# Altium footprint library WREL_AD10_Ben.PcbLib: 135 footprints (part 2 of 9)
Each footprint in its own frame and in the unit in brackets; x right, y up, seen from the top. Pads: shape width x height; smd on the part's side, far side on the other; paste and mask are expansions set on the pad; w line width, h text height; cw(c..) or ccw(c..) is an arc to the next point about the centre after c.
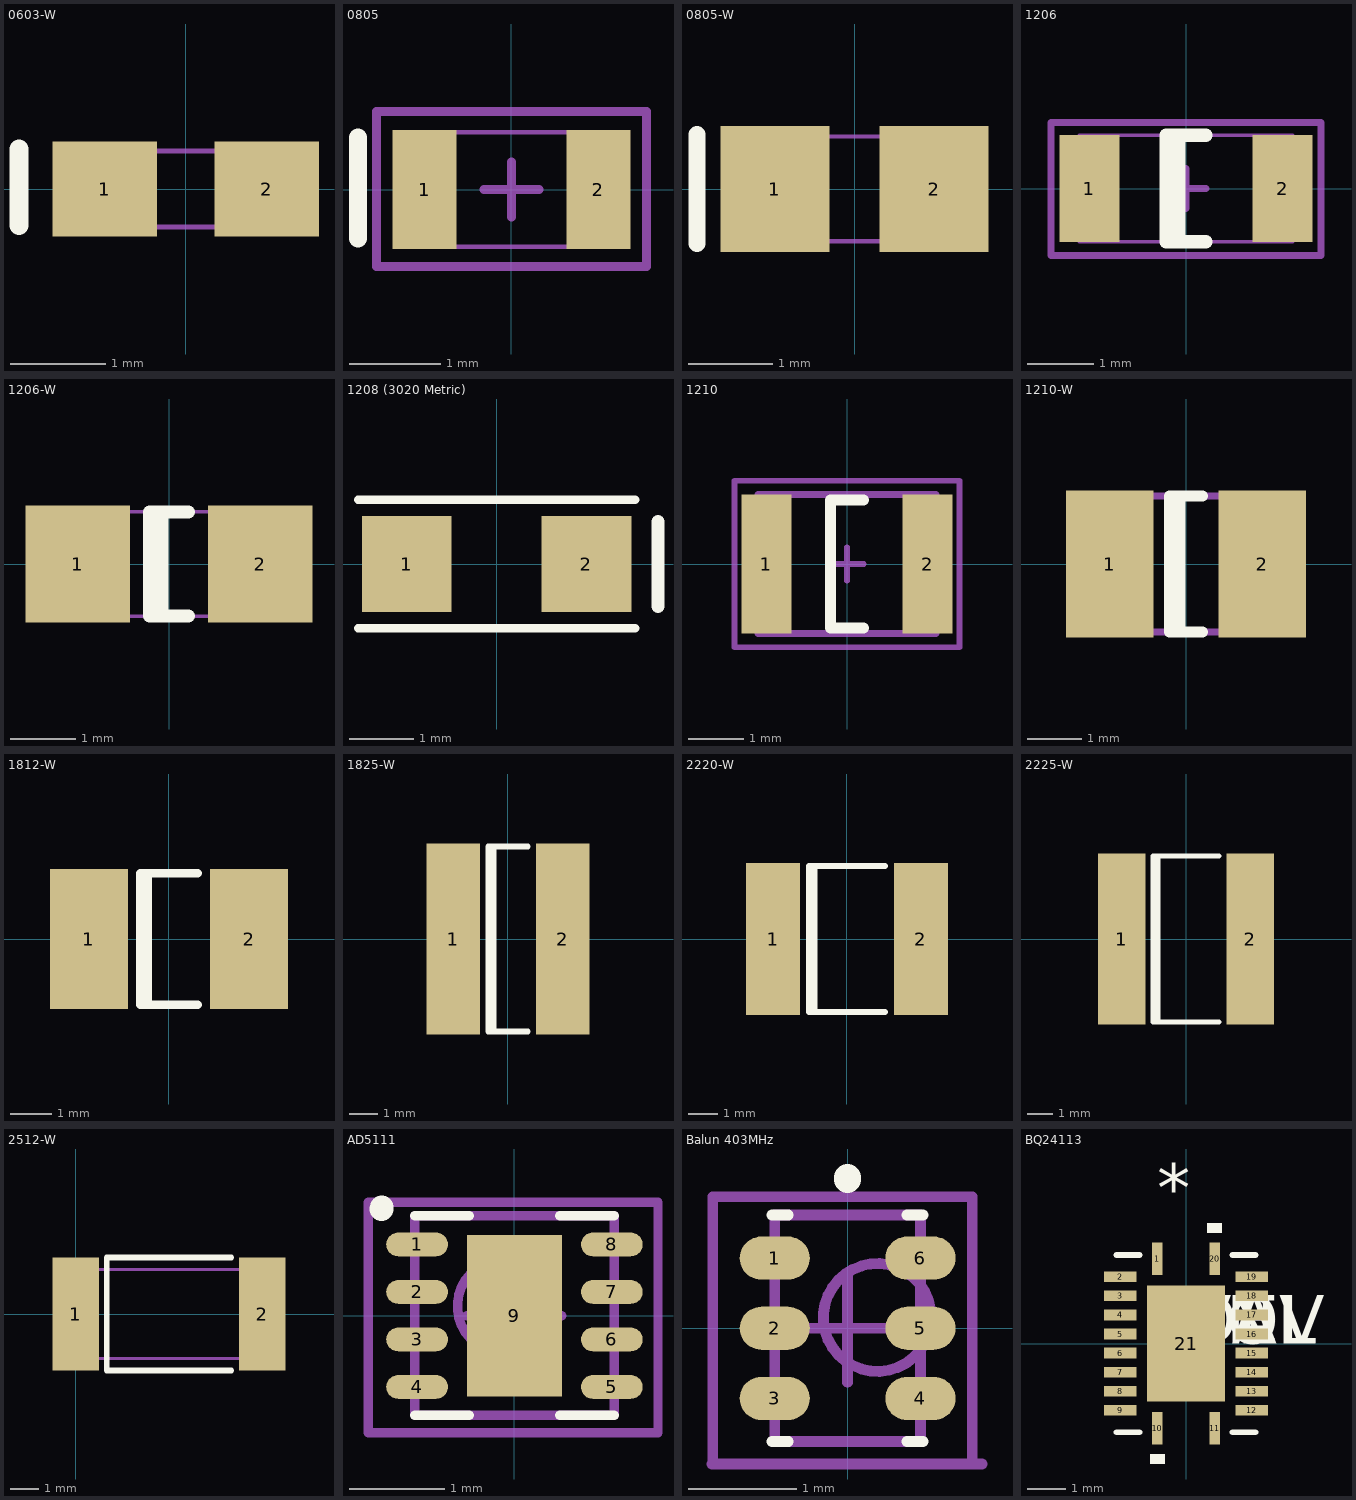
[diagram p1: the footprints below, top view; thin cyan lines are the x and y axes]

## 0603-W [mm] "Surface Mount - Wide; Body 1.6 x 0.8 mm (LxW typ)"
height 0.8
pads (2):
  rect 1.1x1 smd: 1(-0.85,0) 2(0.85,0)
Top Overlay:
  lines w0.2: -1.753,-0.381 -1.753,0.419
Mechanical 13:
  lines w0.051: -0.8,-0.4 -0.8,0.4 0.8,0.4 0.8,-0.4 -0.8,-0.4
3D body: height 0.8, standoff 0, extent -0.8,-0.4 0.8,0.4

## 0805 [mm] "Surface Mount; Body 2.0 x 1.25 mm (LxW typ)"
height 1.25
pads (2):
  rect 0.7x1.3 smd: 1(-0.95,0) 2(0.95,0)
Top Overlay:
  lines w0.2: -1.676,-0.533 -1.676,0.567
Mechanical 13:
  lines w0.051: -1,-0.625 -1,0.625 1,0.625 1,-0.625 -1,-0.625
Mechanical 15:
  lines w0.1: -0.3,0 0.3,0 ; 0,-0.3 0,0.3 ; -1.475,-0.838 1.475,-0.838 1.475,0.851 -1.475,0.851 -1.475,-0.838
3D body: height 1.25, standoff 0, extent -1,-0.625 1,0.625

## 0805-W [mm] "Surface Mount - Wide; Body 2.0 x 1.25 mm (LxW typ)"
height 1.25
pads (2):
  rect 1.3x1.5 smd: 1(-0.95,0) 2(0.95,0)
Top Overlay:
  lines w0.2: -1.88,-0.65 -1.88,0.65
Mechanical 13:
  lines w0.051: -1,-0.625 -1,0.625 1,0.625 1,-0.625 -1,-0.625
3D body: height 1.25, standoff 0, extent -1,-0.625 1,0.625

## 1206 [mm] "Surface Mount; Body 3.2 x 1.6 mm (LxW typ)"
height 1.1
pads (2):
  rect 0.9x1.6 smd: 1(-1.45,0) 2(1.45,0)
Top Overlay:
  lines w0.2: -0.11,-0.8 -0.11,0.8 ; 0.3,-0.8 -0.3,-0.8 -0.3,0.8 0.3,0.8
Mechanical 13:
  lines w0.051: -1.6,-0.8 -1.6,0.8 1.6,0.8 1.6,-0.8 -1.6,-0.8
Mechanical 15:
  lines w0.1: -0.3,0 0.3,0 ; 0,-0.3 0,0.3 ; -2.025,-1.003 2.025,-1.003 2.025,0.991 -2.025,0.991 -2.025,-1.003
3D body: height 1.1, standoff 0, extent -1.6,-0.8 1.6,0.8

## 1206-W [mm] "Surface Mount - Wide; Body 3.2 x 1.6 mm (LxW typ)"
height 1.1
pads (2):
  rect 1.6x1.8 smd: 1(-1.4,0) 2(1.4,0)
Top Overlay:
  lines w0.2: -0.11,-0.8 -0.11,0.8 ; 0.3,-0.8 -0.3,-0.8 -0.3,0.8 0.3,0.8
Mechanical 13:
  lines w0.051: -1.6,-0.8 1.6,-0.8 1.6,0.8 -1.6,0.8 -1.6,-0.8
3D body: height 1.1, standoff 0, extent -1.6,-0.8 1.6,0.8

## 1208 (3020 Metric) [mm] "Diode: Body 3 x 2 mm"
height 1.1
pads (2):
  rect 1.4x1.5 smd: 1(-1.4,0) 2(1.4,0)
Top Overlay:
  lines w0.127: -2.159,-1 2.159,-1 ; -2.159,1 2.159,1
  lines w0.2: 2.515,-0.66 2.515,0.66
3D body: height 1.1, standoff 0, extent -1.6,-1.003 1.6,1.003

## 1210 [mm] "Surface Mount; Body 3.2 x 2.5 mm (LxW typ)"
height 2.5
pads (2):
  rect 0.9x2.5 smd: 1(-1.45,0) 2(1.45,0)
Top Overlay:
  lines w0.2: 0.3,-1.15 -0.3,-1.15 -0.3,1.15 0.3,1.15
Mechanical 13:
  lines w0.127: -1.6,-1.25 1.6,-1.25 1.6,1.25 -1.6,1.25 -1.6,-1.25
Mechanical 15:
  lines w0.1: -0.3,0 0.3,0 ; 0,-0.3 0,0.3 ; -2.025,-1.5 2.025,-1.5 2.025,1.5 -2.025,1.5 -2.025,-1.5
3D body: height 2.5, standoff 0, extent -1.6,-1.25 1.6,1.25

## 1210-W [mm] "Chip Capacitor; Body 3.2 x 2.5 mm (LxW typ)"
height 2.5
pads (2):
  rect 1.6x2.7 smd: 1(-1.4,0) 2(1.4,0)
Top Overlay:
  lines w0.2: -0.11,-1.25 -0.11,1.25 ; 0.3,-1.25 -0.3,-1.25 -0.3,1.25 0.3,1.25
Mechanical 13:
  lines w0.127: -1.6,-1.25 1.6,-1.25 1.6,1.25 -1.6,1.25 -1.6,-1.25
3D body: height 2.5, standoff 0, extent -1.6,-1.25 1.6,1.25

## 1812-W [mm] "Chip Capacitor; Body 4.5 x 3.2 mm (LxW typ)"
height 1.7
pads (2):
  rect 1.9x3.4 smd: 1(-1.95,0) 2(1.95,0)
Top Overlay:
  lines w0.2: -0.51,-1.6 -0.51,1.6 ; 0.7,-1.6 -0.7,-1.6 -0.7,1.6 0.7,1.6

## 1825-W [mm] "Chip Capacitor; Body 4.5 x 6.4 mm (LxW typ)"
height 1.7
pads (2):
  rect 1.9x6.8 smd: 1(-1.95,0) 2(1.95,0)
Top Overlay:
  lines w0.2: -0.51,-3.3 -0.51,3.3 ; 0.7,-3.3 -0.7,-3.3 -0.7,3.3 0.7,3.3

## 2220-W [mm] "Chip Capacitor; Body 5.7 x 5.0 mm (LxW typ)"
height 2.5
pads (2):
  rect 1.85x5.2 smd: 1(-2.525,0) 2(2.525,0)
Top Overlay:
  lines w0.2: -1.11,-2.5 -1.11,2.5 ; 1.3,-2.5 -1.3,-2.5 -1.3,2.5 1.3,2.5
3D body: height 2.5, standoff 0, extent -2.845,-2.514 2.845,2.515

## 2225-W [mm] "Chip Capacitor; Body 5.6 x 6.4 mm (LxW typ)"
height 2
pads (2):
  rect 1.9x6.8 smd: 1(-2.55,0) 2(2.55,0)
Top Overlay:
  lines w0.2: -1.11,-3.3 -1.11,3.3 ; 1.3,-3.3 -1.3,-3.3 -1.3,3.3 1.3,3.3

## 2512-W [mil]
height 23.62
pads (2):
  rect 65x158 smd: 1(0,0) 2(260,0)
Top Overlay:
  lines w7.87: 216.54,-78.74 43.31,-78.74 43.31,78.74 216.54,78.74
Mechanical 13:
  lines w3.94: 5.99,-62 254.02,-62 254.02,62.01 5.99,62.01 5.99,-62
3D body: height 23.62, standoff 0, extent 5.99,-62 254.02,62.01

## AD5111 [mm] "IC DGTL POT 128POS 80K 8LFCSP"
height 0.6
pads (9):
  oval 0.65x0.25 smd: 1(-1.025,0.75) 2(-1.025,0.25) 3(-1.025,-0.25) 4(-1.025,-0.75) 5(1.025,-0.75) 6(1.025,-0.25) 7(1.025,0.25) 8(1.025,0.75)
  rect 1x1.7 smd: 9(0,0)
Top Overlay:
  lines w0.1: -1.05,-1.05 -0.475,-1.05 ; -1.05,1.05 -0.475,1.05 ; 0.475,-1.05 1.05,-1.05 ; 0.475,1.05 1.05,1.05
  lines w0.25: -1.398,1.124 ccw(c-1.522,1.143) -1.397,1.143
Mechanical 13:
  circle w0.1: c-0.1,0.1 r0.5
  lines w0.1: -1.05,-1.05 -1.05,1.05 1.05,1.05 1.05,-1.05 -1.05,-1.05
Mechanical 15:
  lines w0.1: -0.5,0 0.5,0 ; 0,-0.5 0,0.5 ; -1.537,-1.232 -1.537,1.194 1.511,1.194 1.511,-1.232 -1.537,-1.232
3D body: height 0.6, standoff 0.02, extent -1.05,-1.05 1.05,1.05

## Balun 403MHz [mm] "FILTER BANDPASS 430-435MHZ TI"
height 0.8
pads (6):
  oval 0.65x0.4 smd: 1(-0.675,0.65) 2(-0.675,0) 3(-0.675,-0.65) 4(0.675,-0.65) 5(0.675,0) 6(0.675,0.65)
Top Overlay:
  lines w0.1: -0.7,-1.05 -0.55,-1.05 ; -0.7,1.05 -0.55,1.05 ; 0.55,-1.05 0.7,-1.05 ; 0.55,1.05 0.7,1.05
  lines w0.25: -0.001,1.379 ccw(c-0.125,1.397) 0,1.397
Mechanical 13:
  circle w0.1: c0.275,0.1 r0.5
  lines w0.1: -0.675,-1.05 -0.675,1.05 0.675,1.05 0.675,-1.05 -0.675,-1.05
Mechanical 15:
  lines w0.1: -1.255,-1.257 1.245,-1.257 ; -1.25,-1.257 -1.25,1.219 1.156,1.219 ; -0.5,0 0.5,0 ; 0,-0.5 0,0.5 ; 1.156,-1.257 1.156,1.206
3D body: height 0.8, standoff 0, extent -0.675,-1.05 0.675,1.05

## BQ24113 [mm] "From TI Website for BQ24113"
pads (21):
  rect 0.28x0.85 smd paste-0.14: 1(-0.75,2.225) 10(-0.75,-2.225) 11(0.75,-2.225) 20(0.75,2.225)
  rect 0.85x0.28 smd paste-0.14: 2(-1.725,1.75) 3(-1.725,1.25) 4(-1.725,0.75) 5(-1.725,0.25) 6(-1.725,-0.25) 7(-1.725,-0.75) 8(-1.725,-1.25) 9(-1.725,-1.75) 12(1.725,-1.75) 13(1.725,-1.25) 14(1.725,-0.75) 15(1.725,-0.25) 16(1.725,0.25) 17(1.725,0.75) 18(1.725,1.25) 19(1.725,1.75)
  rect 2.05x3.05 smd paste-1.512 mask-1.511: 21(0,0)
Top Overlay:
  region: 0.941,2.904 0.56,2.904 0.56,3.158 0.941,3.158
  region: -0.56,-2.904 -0.941,-2.904 -0.941,-3.158 -0.56,-3.158
  lines w0.152: -1.825,-2.325 -1.223,-2.325 ; -1.825,2.325 -1.223,2.325 ; 1.223,-2.325 1.825,-2.325 ; 1.223,2.325 1.825,2.325
  text "TOL" at 0,0 h1.27
  text "VAL" at 0,0 h1.27
  text "DEV" at 0,0 h1.27
  text "PN" at 0,0 h1.27
  text "*" at -0.75,3.437 h1.27
Top Paste:
  drawing of 36 lines, arcs and shapes, not listed
Top Solder:
  region: 0.594,-1.588 0.594,1.588 1.088,1.588 1.088,-1.588
  region: 0.194,-1.588 0.194,1.588 -0.194,1.588 -0.194,-1.588
  region: -1.088,-1.588 -1.088,1.588 -0.594,1.588 -0.594,-1.588
  region: -1.088,-1.588 -1.088,-0.987 1.088,-0.987 1.088,-1.588
  region: -1.088,-0.587 -1.088,-0.2 1.088,-0.2 1.088,-0.587
  region: -1.088,0.2 -1.088,0.587 1.088,0.587 1.088,0.2
  region: -1.088,0.987 -1.088,1.588 1.088,1.588 1.088,0.987
  region: -0.375,-1.525 0.375,-1.525 0.375,-2.65 0.16,-2.65 0.16,-1.925 -0.16,-1.925 -0.16,-2.65 -0.375,-2.65
  region: -0.375,1.525 0.375,1.525 0.375,2.65 0.16,2.65 0.16,1.925 -0.16,1.925 -0.16,2.65 -0.375,2.65
  region: -0.54,2.72 -0.96,2.72 -0.96,1.73 -0.54,1.73
  region: 0.96,2.72 0.54,2.72 0.54,1.73 0.96,1.73
  region: 2.22,1.96 1.23,1.96 1.23,1.54 2.22,1.54
  region: 2.22,1.46 1.23,1.46 1.23,1.04 2.22,1.04
  region: 2.22,0.96 1.23,0.96 1.23,0.54 2.22,0.54
  region: 2.22,0.46 1.23,0.46 1.23,0.04 2.22,0.04
  region: 2.22,-0.04 1.23,-0.04 1.23,-0.46 2.22,-0.46
  region: 2.22,-0.54 1.23,-0.54 1.23,-0.96 2.22,-0.96
  region: 2.22,-1.04 1.23,-1.04 1.23,-1.46 2.22,-1.46
  region: 2.22,-1.54 1.23,-1.54 1.23,-1.96 2.22,-1.96
  region: 0.96,-1.73 0.54,-1.73 0.54,-2.72 0.96,-2.72
  region: -0.54,-1.73 -0.96,-1.73 -0.96,-2.72 -0.54,-2.72
  region: -1.23,-1.54 -2.22,-1.54 -2.22,-1.96 -1.23,-1.96
  region: -1.23,-1.04 -2.22,-1.04 -2.22,-1.46 -1.23,-1.46
  region: -1.23,-0.54 -2.22,-0.54 -2.22,-0.96 -1.23,-0.96
  region: -1.23,-0.04 -2.22,-0.04 -2.22,-0.46 -1.23,-0.46
  region: -1.23,0.46 -2.22,0.46 -2.22,0.04 -1.23,0.04
  region: -1.23,0.96 -2.22,0.96 -2.22,0.54 -1.23,0.54
  region: -1.23,1.46 -2.22,1.46 -2.22,1.04 -1.23,1.04
  region: -1.23,1.96 -2.22,1.96 -2.22,1.54 -1.23,1.54